# Altium footprint library RES2512.PcbLib: 1 footprints
Each footprint in its own frame and in the unit in brackets; x right, y up, seen from the top. Pads: shape width x height; smd on the part's side, far side on the other; paste and mask are expansions set on the pad; w line width, h text height; cw(c..) or ccw(c..) is an arc to the next point about the centre after c.
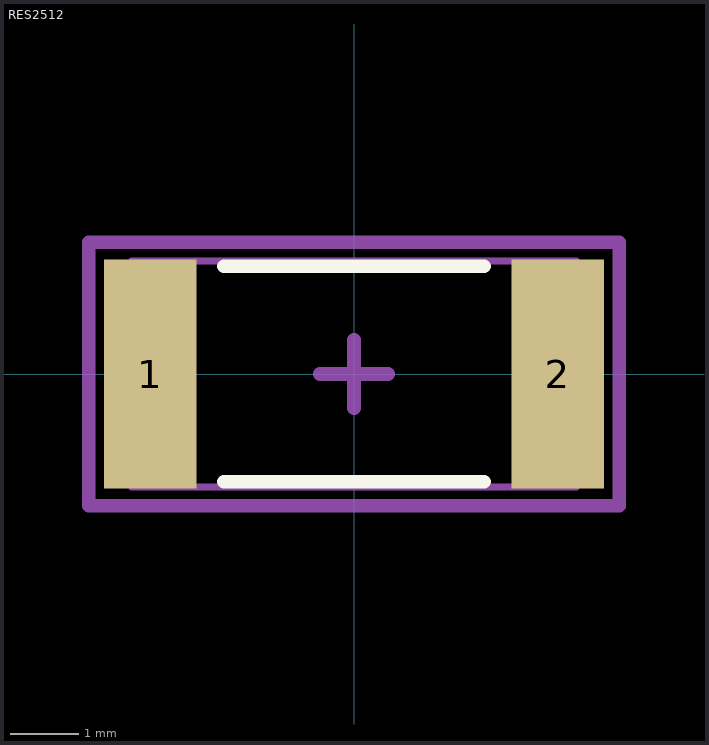
[diagram p0: the footprint, top view; thin cyan lines are the x and y axes]

## RES2512 [mm] "Chip Resistor, 2512, Body 6,3x3,1mm, max. High: 0.7mm"
height 0.7
pads (2):
  rect 1.35x3.35 smd: 1(-2.975,0) 2(2.975,0)
Top Overlay:
  lines w0.2: -1.9,-1.575 1.9,-1.575 ; -1.9,1.575 1.9,1.575
Mechanical 13:
  lines w0.1: -3.25,-1.65 3.25,-1.65 3.25,1.65 -3.25,1.65 -3.25,-1.65
Mechanical 15:
  lines w0.2: -0.5,0 0.5,0 ; 0,-0.5 0,0.5 ; -3.875,-1.925 3.875,-1.925 3.875,1.925 -3.875,1.925 -3.875,-1.925
3D body "Res-2512.STEP": height 0.6, standoff 0, extent -3.2,-1.6 3.2,1.6
3D body: height 0.9, standoff 0, extent -2.2,-1.65 2.2,1.65
3D body: height 0.9, standoff 0, extent -3.25,-1.65 -2.2,1.65
3D body: height 0.9, standoff 0, extent 2.2,-1.65 3.25,1.65